# EAGLE library part ITG3050_GYRO (library ModernDeviceOldWorkingBest)
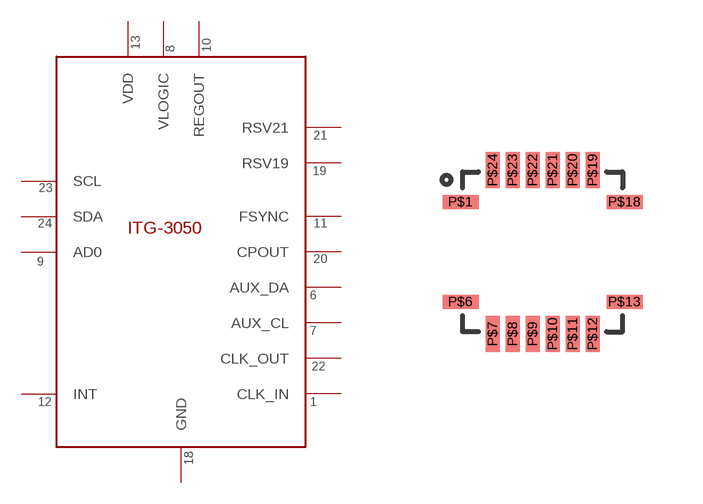
[diagram p77: symbol with the pads of ITG-3050; footprint ITG-3050]

Designator prefix -

## ITG3050_GYRO  [ITG-3050]
P$1  CLK_IN
P$6  AUX_DA
P$7  AUX_CL
P$8  VLOGIC
P$9  AD0
P$10  REGOUT
P$11  FSYNC
P$12  INT
P$13  VDD
P$18  GND
P$19  RSV19
P$20  CPOUT
P$21  RSV21
P$22  CLK_OUT
P$23  SCL
P$24  SDA

## Footprint ITG-3050 (pad centres in mm)
smd 0.9 x 0.35: P$1 -2.05,1.25; P$6 -2.05,-1.25; P$13 2.05,-1.25; P$18 2.05,1.25
smd 0.35 x 0.9: P$7 -1.25,-2.05; P$8 -0.75,-2.05; P$9 -0.25,-2.05; P$10 0.25,-2.05; P$11 0.75,-2.05; P$12 1.25,-2.05; P$19 1.25,2.05; P$20 0.75,2.05; P$21 0.25,2.05; P$22 -0.25,2.05; P$23 -0.75,2.05; P$24 -1.25,2.05